# EAGLE library part LNBP010X/X-CC (library SM-LED)
10-LED common cathode LED bar duo color
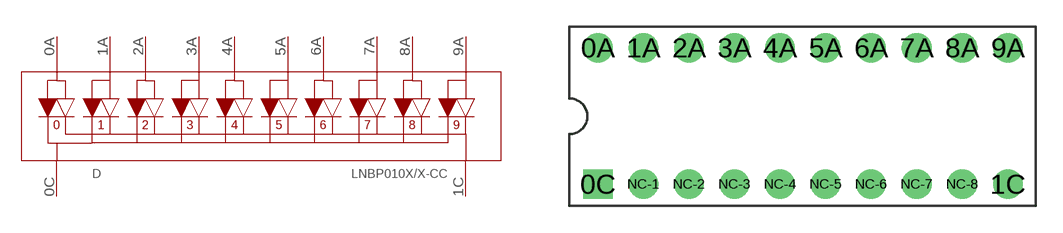
[diagram p2: symbol with the pads of LN-BP010HR/G-CC; footprint LN-BP010HR/G-CC]

Designator prefix D

## LNBP010X/X-CC-HR/G (COLOR: Hi-Red / Green; TME-ID: LN-BP010HR/G-CC)  [LN-BP010HR/G-CC]
0A  0A  out
0C  0C  in
1A  1A  out
1C  1C  in
2A  2A  out
3A  3A  out
4A  4A  out
5A  5A  out
6A  6A  out
7A  7A  out
8A  8A  out
9A  9A  out

## Footprint LN-BP010HR/G-CC (pad centres in mm)
drill 1.1: 0A -10.41,3.83; 1A -7.87,3.83; 1C 12.45,-3.79; 2A -5.33,3.83; 3A -2.79,3.83; 4A -0.25,3.83; 5A 2.29,3.83; 6A 4.83,3.83; 7A 7.37,3.83; 8A 9.91,3.83; 9A 12.45,3.83; NC-1 -7.87,-3.79; NC-2 -5.33,-3.79; NC-3 -2.79,-3.79; NC-4 -0.25,-3.79; NC-5 2.29,-3.79; NC-6 4.83,-3.79; NC-7 7.37,-3.79; NC-8 9.91,-3.79
drill 1.1 square: 0C -10.41,-3.79